# Altium integrated library HCPL-2232.Library.IntLib: 2 symbols
Pins are listed as number, name and electrical type; pins without a type are passive.

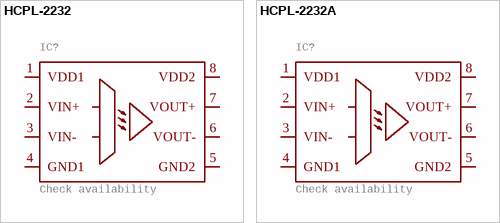
[diagram p0: symbols HCPL-2232 to HCPL-2232A]

## HCPL-2232
designator IC?, comment Check availability
GateName_1: G$1; MF: Broadcom Limited; Description: Logic Output Optoisolator 5MBd Push-Pull, Totem Pole 3750Vrms 2 Channel 10kV/µs CMTI 8-DIP Gull Wing; SymbolName_1: HCPL-2232; LibraryName: HCPL-2232; DeviceSetName: HCPL-2232; Package: DIL08; Package: DIP-8 Broadcom / Avago; Price: None; SnapEDA_Link: https://www.snapeda.com/parts/HCPL-2232/Broadcom/view-part/?ref=snap; MP: HCPL-2232; Availability: In Stock; Check_prices: https://www.snapeda.com/parts/HCPL-2232/Broadcom/view-part/?ref=eda
footprint DIL08
pins: 1 VDD1 (power), 2 VIN+ (power), 3 VIN- (power), 4 GND1 (power), 5 GND2 (power), 6 VOUT- (power), 7 VOUT+ (power), 8 VDD2 (power)

## HCPL-2232A
designator IC?, comment Check availability
GateName_1: G$1; DeviceName: A; MF: Broadcom Limited; Description: Logic Output Optoisolator 5MBd Push-Pull, Totem Pole 3750Vrms 2 Channel 10kV/µs CMTI 8-DIP Gull Wing; SymbolName_1: HCPL-2232; LibraryName: HCPL-2232; DeviceSetName: HCPL-2232; Package: DIP8; Package: DIP-8 Broadcom / Avago; Price: None; SnapEDA_Link: https://www.snapeda.com/parts/HCPL-2232/Broadcom/view-part/?ref=snap; MP: HCPL-2232; Availability: In Stock; Check_prices: https://www.snapeda.com/parts/HCPL-2232/Broadcom/view-part/?ref=eda
footprint DIP8
pins: 1 VDD1 (power), 2 VIN+ (power), 3 VIN- (power), 4 GND1 (power), 5 GND2 (power), 6 VOUT- (power), 7 VOUT+ (power), 8 VDD2 (power)